# Altium footprint library Smart Stpper Fin.PcbLib: 46 footprints (part 2 of 3)
Each footprint in its own frame and in the unit in brackets; x right, y up, seen from the top. Pads: shape width x height; smd on the part's side, far side on the other; paste and mask are expansions set on the pad; w line width, h text height; cw(c..) or ccw(c..) is an arc to the next point about the centre after c.
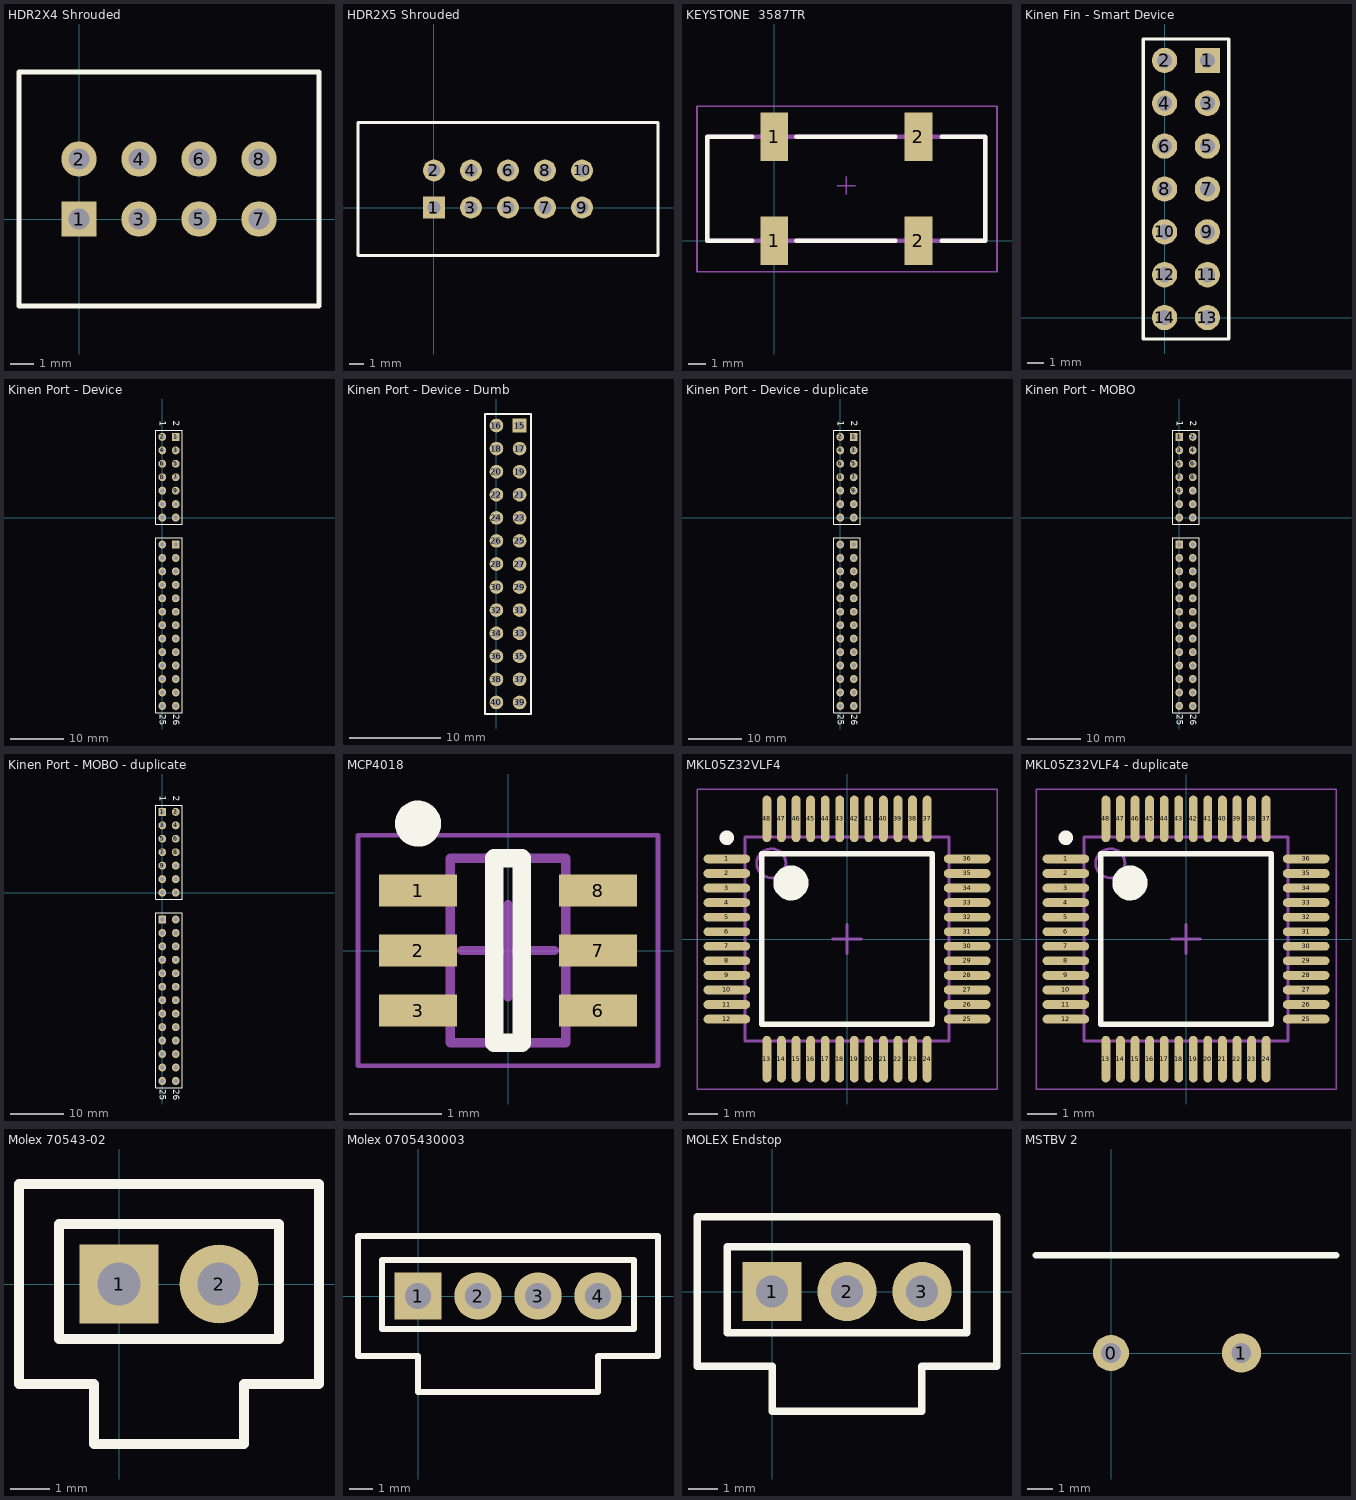
[diagram p1: the footprints below, top view; thin cyan lines are the x and y axes]

## HDR2X4 Shrouded [mm] "Connector; Header; 4x2 Position"
pads (8):
  rect 1.5x1.5 hole 0.9: 1(0,0)
  round 1.5 hole 0.9: 2(0,2.54) 3(2.54,0) 4(2.54,2.54) 5(5.08,0) 6(5.08,2.54) 7(7.62,0) 8(7.62,2.54)
Top Overlay:
  lines w0.2: -2.54,-3.683 10.16,-3.683 10.16,6.223 -2.54,6.223 -2.54,-3.683
3D body: height 10.06, standoff -3.74, extent -2.44,-3.605 10.06,6.145

## HDR2X5 Shrouded [mm] "Connector; Header; 5x2 Position"
pads (10):
  rect 1.5x1.5 hole 0.9: 1(0,0)
  round 1.5 hole 0.9: 2(0,2.54) 3(2.54,0) 4(2.54,2.54) 5(5.08,0) 6(5.08,2.54) 7(7.62,0) 8(7.62,2.54) 9(10.16,0) 10(10.16,2.54)
Top Overlay:
  lines w0.2: -5.207,-3.302 15.367,-3.302 15.367,5.842 -5.207,5.842 -5.207,-3.302
3D body: height 9.31, standoff -3.39, extent -5.08,-3.175 15.24,5.715

## KEYSTONE  3587TR [mm] "KEYSTONE  3587TR  Automotive FUse Holder"
pads (4):
  rect 1.6x2.8 smd: 1(0,0) 1(0,6) 2(8.3,0) 2(8.3,6)
Top Overlay:
  lines w0.254: -1.27,0 -3.85,0 -3.85,6 -1.27,6 ; 1.27,0 6.985,0 ; 1.27,6 6.985,6 ; 9.652,0 12.15,0 12.15,6 9.652,6
Mechanical 1:
  lines w0.254: -3.85,0 -3.85,6 12.15,6 12.15,0 -3.85,0
Mechanical 15:
  lines w0.1: 3.65,3.175 4.65,3.175 ; 4.15,2.675 4.15,3.675 ; -4.445,-1.778 -4.445,7.747 12.827,7.747 12.827,-1.778 -4.445,-1.778
3D body: height 7.4, standoff 0, extent -3.81,0 12.192,5.969

## Kinen Fin - Smart Device [mm]
pads (14):
  rect 1.5x1.5 hole 0.9: 1(2.54,15.24)
  round 1.5 hole 0.9: 2(0,15.24) 3(2.54,12.7) 4(0,12.7) 5(2.54,10.16) 6(0,10.16) 7(2.54,7.62) 8(0,7.62) 9(2.54,5.08) 10(0,5.08) 11(2.54,2.54) 12(0,2.54) 13(2.54,0) 14(0,0)
Top Overlay:
  lines w0.2: -1.27,-1.27 -1.27,16.51 3.81,16.51 3.81,-1.27 -1.27,-1.27

## Kinen Port - Device [mm] "Synthetos Kinen Expansion Port Socket"
pads (40):
  rect 1.5x1.5 hole 0.9: 1(2.54,15.24) 15(2.54,-5.08)
  round 1.5 hole 0.9: 2(0,15.24) 3(2.54,12.7) 4(0,12.7) 5(2.54,10.16) 6(0,10.16) 7(2.54,7.62) 8(0,7.62) 9(2.54,5.08) 10(0,5.08) 11(2.54,2.54) 12(0,2.54) 13(2.54,0) 14(0,0) 16(0,-5.08) 17(2.54,-7.62) 18(0,-7.62) 19(2.54,-10.16) 20(0,-10.16) 21(2.54,-12.7) 22(0,-12.7) 23(2.54,-15.24) 24(0,-15.24) 25(2.54,-17.78) 26(0,-17.78) 27(2.54,-20.32) 28(0,-20.32) 29(2.54,-22.86) 30(0,-22.86) 31(2.54,-25.4) 32(0,-25.4) 33(2.54,-27.94) 34(0,-27.94) 35(2.54,-30.48) 36(0,-30.48) 37(2.54,-33.02) 38(0,-33.02) 39(2.54,-35.56) 40(0,-35.56)
Top Overlay:
  lines w0.2: -1.27,-36.83 -1.27,-3.81 3.81,-3.81 3.81,-36.83 -1.27,-36.83 ; -1.27,-1.27 -1.27,16.51 3.81,16.51 3.81,-1.27 -1.27,-1.27
  text "1" at -0.508,18.288 h1.27
  text "2" at 2.032,18.288 h1.27
  text "26" at 2.032,-37.084 h1.27
  text "25" at -0.508,-37.084 h1.27

## Kinen Port - Device - Dumb [mm] "Synthetos Kinen Expansion Port Socket"
pads (26):
  rect 1.5x1.5 hole 0.9: 15(2.54,-5.08)
  round 1.5 hole 0.9: 16(0,-5.08) 17(2.54,-7.62) 18(0,-7.62) 19(2.54,-10.16) 20(0,-10.16) 21(2.54,-12.7) 22(0,-12.7) 23(2.54,-15.24) 24(0,-15.24) 25(2.54,-17.78) 26(0,-17.78) 27(2.54,-20.32) 28(0,-20.32) 29(2.54,-22.86) 30(0,-22.86) 31(2.54,-25.4) 32(0,-25.4) 33(2.54,-27.94) 34(0,-27.94) 35(2.54,-30.48) 36(0,-30.48) 37(2.54,-33.02) 38(0,-33.02) 39(2.54,-35.56) 40(0,-35.56)
Top Overlay:
  lines w0.2: -1.27,-36.83 -1.27,-3.81 3.81,-3.81 3.81,-36.83 -1.27,-36.83

## Kinen Port - Device - duplicate [mm] "Synthetos Kinen Expansion Port Socket"
pads (40):
  rect 1.5x1.5 hole 0.9: 1(2.54,15.24) 15(2.54,-5.08)
  round 1.5 hole 0.9: 2(0,15.24) 3(2.54,12.7) 4(0,12.7) 5(2.54,10.16) 6(0,10.16) 7(2.54,7.62) 8(0,7.62) 9(2.54,5.08) 10(0,5.08) 11(2.54,2.54) 12(0,2.54) 13(2.54,0) 14(0,0) 16(0,-5.08) 17(2.54,-7.62) 18(0,-7.62) 19(2.54,-10.16) 20(0,-10.16) 21(2.54,-12.7) 22(0,-12.7) 23(2.54,-15.24) 24(0,-15.24) 25(2.54,-17.78) 26(0,-17.78) 27(2.54,-20.32) 28(0,-20.32) 29(2.54,-22.86) 30(0,-22.86) 31(2.54,-25.4) 32(0,-25.4) 33(2.54,-27.94) 34(0,-27.94) 35(2.54,-30.48) 36(0,-30.48) 37(2.54,-33.02) 38(0,-33.02) 39(2.54,-35.56) 40(0,-35.56)
Top Overlay:
  lines w0.2: -1.27,-36.83 -1.27,-3.81 3.81,-3.81 3.81,-36.83 -1.27,-36.83 ; -1.27,-1.27 -1.27,16.51 3.81,16.51 3.81,-1.27 -1.27,-1.27
  text "1" at -0.508,18.288 h1.27
  text "2" at 2.032,18.288 h1.27
  text "26" at 2.032,-37.084 h1.27
  text "25" at -0.508,-37.084 h1.27

## Kinen Port - MOBO [mm] "Synthetos Kinen Expansion Port Socket"
pads (40):
  rect 1.5x1.5 hole 0.9: 1(0,15.24) 15(0,-5.08)
  round 1.5 hole 0.9: 2(2.54,15.24) 3(0,12.7) 4(2.54,12.7) 5(0,10.16) 6(2.54,10.16) 7(0,7.62) 8(2.54,7.62) 9(0,5.08) 10(2.54,5.08) 11(0,2.54) 12(2.54,2.54) 13(0,0) 14(2.54,0) 16(2.54,-5.08) 17(0,-7.62) 18(2.54,-7.62) 19(0,-10.16) 20(2.54,-10.16) 21(0,-12.7) 22(2.54,-12.7) 23(0,-15.24) 24(2.54,-15.24) 25(0,-17.78) 26(2.54,-17.78) 27(0,-20.32) 28(2.54,-20.32) 29(0,-22.86) 30(2.54,-22.86) 31(0,-25.4) 32(2.54,-25.4) 33(0,-27.94) 34(2.54,-27.94) 35(0,-30.48) 36(2.54,-30.48) 37(0,-33.02) 38(2.54,-33.02) 39(0,-35.56) 40(2.54,-35.56)
Top Overlay:
  lines w0.2: -1.27,-36.83 3.81,-36.83 3.81,-3.81 -1.27,-3.81 -1.27,-36.83 ; -1.27,-1.27 3.81,-1.27 3.81,16.51 -1.27,16.51 -1.27,-1.27
  text "25" at -0.508,-37.084 h1.27
  text "26" at 2.032,-37.084 h1.27
  text "2" at 2.032,18.288 h1.27
  text "1" at -0.508,18.288 h1.27

## Kinen Port - MOBO - duplicate [mm] "Synthetos Kinen Expansion Port Socket"
pads (40):
  rect 1.5x1.5 hole 0.9: 1(0,15.24) 15(0,-5.08)
  round 1.5 hole 0.9: 2(2.54,15.24) 3(0,12.7) 4(2.54,12.7) 5(0,10.16) 6(2.54,10.16) 7(0,7.62) 8(2.54,7.62) 9(0,5.08) 10(2.54,5.08) 11(0,2.54) 12(2.54,2.54) 13(0,0) 14(2.54,0) 16(2.54,-5.08) 17(0,-7.62) 18(2.54,-7.62) 19(0,-10.16) 20(2.54,-10.16) 21(0,-12.7) 22(2.54,-12.7) 23(0,-15.24) 24(2.54,-15.24) 25(0,-17.78) 26(2.54,-17.78) 27(0,-20.32) 28(2.54,-20.32) 29(0,-22.86) 30(2.54,-22.86) 31(0,-25.4) 32(2.54,-25.4) 33(0,-27.94) 34(2.54,-27.94) 35(0,-30.48) 36(2.54,-30.48) 37(0,-33.02) 38(2.54,-33.02) 39(0,-35.56) 40(2.54,-35.56)
Top Overlay:
  lines w0.2: -1.27,-36.83 -1.27,-3.81 3.81,-3.81 3.81,-36.83 -1.27,-36.83 ; -1.27,-1.27 -1.27,16.51 3.81,16.51 3.81,-1.27 -1.27,-1.27
  text "1" at -0.508,18.288 h1.27
  text "2" at 2.032,18.288 h1.27
  text "26" at 2.032,-37.084 h1.27
  text "25" at -0.508,-37.084 h1.27

## MCP4018 [mm] "SOT23, 6-Leads, Body 1.93x2.10mm, Pitch 0.65mm, IPC Medium Density"
height 1.1
pads (6):
  rect 0.85x0.35 smd: 1(-0.975,0.65) 2(-0.975,0) 3(-0.975,-0.65) 6(0.975,-0.65) 7(0.975,0) 8(0.975,0.65)
Top Overlay:
  circle w0.25: c-0.975,1.375 r0.125
  lines w0.2: -0.15,-1 -0.15,1 0.15,1 0.15,-1 -0.15,-1
Mechanical 13:
  lines w0.1: -0.625,-1 0.625,-1 0.625,1 -0.625,1 -0.625,-1
Mechanical 15:
  lines w0.05: -1.625,-1.25 1.625,-1.25 1.625,1.25 -1.625,1.25 -1.625,-1.25
  lines w0.1: -0.5,0 0.5,0 ; 0,-0.5 0,0.5
3D body: height 1.1, standoff 0, extent -0.625,-1 0.625,1

## MKL05Z32VLF4 [mm] "TSQFP, 48-Leads, Body 7.00x7.00mm, Pitch 0.50mm, IPC Medium Density"
height 1.6
pads (48):
  oval 1.6x0.3 smd: 1(-4.125,2.75) 2(-4.125,2.25) 3(-4.125,1.75) 4(-4.125,1.25) 5(-4.125,0.75) 6(-4.125,0.25) 7(-4.125,-0.25) 8(-4.125,-0.75) 9(-4.125,-1.25) 10(-4.125,-1.75) 11(-4.125,-2.25) 12(-4.125,-2.75) 25(4.125,-2.75) 26(4.125,-2.25) 27(4.125,-1.75) 28(4.125,-1.25) 29(4.125,-0.75) 30(4.125,-0.25) 31(4.125,0.25) 32(4.125,0.75) 33(4.125,1.25) 34(4.125,1.75) 35(4.125,2.25) 36(4.125,2.75)
  oval 0.3x1.6 smd: 13(-2.75,-4.125) 14(-2.25,-4.125) 15(-1.75,-4.125) 16(-1.25,-4.125) 17(-0.75,-4.125) 18(-0.25,-4.125) 19(0.25,-4.125) 20(0.75,-4.125) 21(1.25,-4.125) 22(1.75,-4.125) 23(2.25,-4.125) 24(2.75,-4.125) 37(2.75,4.125) 38(2.25,4.125) 39(1.75,4.125) 40(1.25,4.125) 41(0.75,4.125) 42(0.25,4.125) 43(-0.25,4.125) 44(-0.75,4.125) 45(-1.25,4.125) 46(-1.75,4.125) 47(-2.25,4.125) 48(-2.75,4.125)
Top Overlay:
  circle w0.6: c-1.925,1.925 r0.3
  circle w0.25: c-4.125,3.475 r0.125
  lines w0.2: -2.925,-2.925 2.925,-2.925 2.925,2.925 -2.925,2.925 -2.925,-2.925
Mechanical 13:
  circle w0.1: c-2.6,2.6 r0.5
  lines w0.1: -3.5,-3.5 3.5,-3.5 3.5,3.5 -3.5,3.5 -3.5,-3.5
Mechanical 15:
  lines w0.05: -5.15,-5.15 5.15,-5.15 5.15,5.15 -5.15,5.15 -5.15,-5.15
  lines w0.1: -0.5,0 0.5,0 ; 0,-0.5 0,0.5
3D body: height 1.6, standoff 0.05, extent -3.5,-3.5 3.5,3.5

## MKL05Z32VLF4 - duplicate [mm] "TSQFP, 48-Leads, Body 7.00x7.00mm, Pitch 0.50mm, IPC Medium Density"
height 1.6
pads (48):
  oval 1.6x0.3 smd: 1(-4.125,2.75) 2(-4.125,2.25) 3(-4.125,1.75) 4(-4.125,1.25) 5(-4.125,0.75) 6(-4.125,0.25) 7(-4.125,-0.25) 8(-4.125,-0.75) 9(-4.125,-1.25) 10(-4.125,-1.75) 11(-4.125,-2.25) 12(-4.125,-2.75) 25(4.125,-2.75) 26(4.125,-2.25) 27(4.125,-1.75) 28(4.125,-1.25) 29(4.125,-0.75) 30(4.125,-0.25) 31(4.125,0.25) 32(4.125,0.75) 33(4.125,1.25) 34(4.125,1.75) 35(4.125,2.25) 36(4.125,2.75)
  oval 0.3x1.6 smd: 13(-2.75,-4.125) 14(-2.25,-4.125) 15(-1.75,-4.125) 16(-1.25,-4.125) 17(-0.75,-4.125) 18(-0.25,-4.125) 19(0.25,-4.125) 20(0.75,-4.125) 21(1.25,-4.125) 22(1.75,-4.125) 23(2.25,-4.125) 24(2.75,-4.125) 37(2.75,4.125) 38(2.25,4.125) 39(1.75,4.125) 40(1.25,4.125) 41(0.75,4.125) 42(0.25,4.125) 43(-0.25,4.125) 44(-0.75,4.125) 45(-1.25,4.125) 46(-1.75,4.125) 47(-2.25,4.125) 48(-2.75,4.125)
Top Overlay:
  circle w0.6: c-1.925,1.925 r0.3
  circle w0.25: c-4.125,3.475 r0.125
  lines w0.2: -2.925,-2.925 2.925,-2.925 2.925,2.925 -2.925,2.925 -2.925,-2.925
Mechanical 13:
  circle w0.1: c-2.6,2.6 r0.5
  lines w0.1: -3.5,-3.5 3.5,-3.5 3.5,3.5 -3.5,3.5 -3.5,-3.5
Mechanical 15:
  lines w0.05: -5.15,-5.15 5.15,-5.15 5.15,5.15 -5.15,5.15 -5.15,-5.15
  lines w0.1: -0.5,0 0.5,0 ; 0,-0.5 0,0.5
3D body: height 1.6, standoff 0.05, extent -3.5,-3.5 3.5,3.5

## Molex 70543-02 [mm]
pads (2):
  rect 2x2 hole 1.09: 1(0,0)
  round 2 hole 1.09: 2(2.54,0)
Top Overlay:
  lines w0.254: -2.54,-2.54 -2.54,2.54 5.08,2.54 5.08,-2.54 3.175,-2.54 3.175,-4.064 -0.635,-4.064 -0.635,-2.54 -2.54,-2.54 ; -1.524,-1.397 -1.524,-1.27 -1.524,1.524 4.064,1.524 4.064,-1.397 -1.397,-1.397 -1.524,-1.397

## Molex 0705430003 [mm] "4 pin connector"
pads (4):
  rect 2x2 hole 1.09: 1(0,0)
  round 2 hole 1.09: 2(2.54,0) 3(5.08,0) 4(7.62,0)
Top Overlay:
  lines w0.254: -2.54,-2.54 0,-2.54 0,-4.064 7.62,-4.064 7.62,-2.54 10.16,-2.54 10.16,2.54 -2.54,2.54 -2.54,-2.54 ; -1.524,-1.397 -1.397,-1.397 9.144,-1.397 9.144,1.524 -1.524,1.524 -1.524,-1.27 -1.524,-1.397

## MOLEX Endstop [mm]
pads (3):
  rect 2x2 hole 1.09: 1(0,0)
  round 2 hole 1.09: 2(2.54,0) 3(5.08,0)
Top Overlay:
  lines w0.254: -2.54,-2.54 -2.54,2.54 7.62,2.54 7.62,-2.54 5.08,-2.54 5.08,-4.064 0,-4.064 0,-2.54 -2.54,-2.54 ; -1.524,-1.397 -1.524,-1.27 -1.524,1.524 6.604,1.524 6.604,-1.397 -1.397,-1.397 -1.524,-1.397

## MSTBV 2 [mil] "Pheonix Contac MSTBV 2,5/10-GF-5,08"
pads (2):
  round 55.12 hole 30: 0(0,0)
  round 60 hole 30: 1(200,0)
Top Overlay:
  lines w10: -115,149.61 345,149.61